# Altium integrated library PIC-ICSP.IntLib: 1 symbol
Pins are listed as number, name and electrical type; pins without a type are passive.

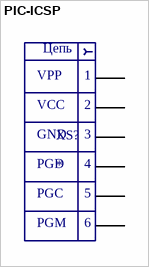
[diagram p0: symbol PIC-ICSP]

## PIC-ICSP
designator XS?
MICROCHIP ICSP PROG ADAPTER SET; MP: PIC-ICSP; MF: Olimex LTD; Price: None; Value: *; Package: None; SnapEDA_Link: https://www.snapeda.com/parts/PIC-ICSP/Olimex%20LTD/view-part/53514/?ref=snap; Availability: Unavailable
footprint MOLEX-1X6
pins: 1 PGM, 2 PGC, 3 PGD, 4 GND, 5 VCC, 6 VPP
text: Цепь